# EAGLE library part ATECC608A-SSHDA-T_LCSC (library lcsc_parts)
Description: I2C SOIC-8 Specialized ICs RoHS Manufacturer: MICROCHIP MPN: ATECC608A-SSHDA-T LCSC Part: C616024 Category: Specialized ICs Datasheet: https://datasheet.lcsc.com/datasheet/pdf/b1cc3ea0f91aa4341c950e33791bdef3.pdf?productCode=C616024
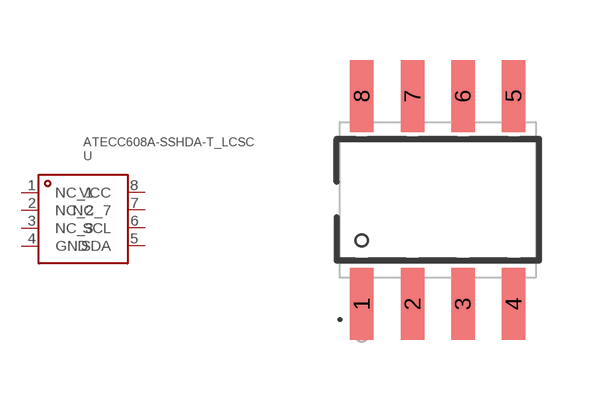
[diagram p13: symbol with the pads of SOIC-8_L4.9-W3.9-P1.27-LS6.0-BL; footprint SOIC-8_L4.9-W3.9-P1.27-LS6.0-BL]

Designator prefix U

## ATECC608A-SSHDA-T_LCSC (CATEGORY: Specialized ICs; DATASHEET: https://datasheet.lcsc.com/datasheet/pdf/b1cc3ea0f91aa4341c950e33791bdef3.pdf?productCode=C616024; DATA_RATE: 1Mbps; DESCRIPTION: I2C SOIC-8 Specialized ICs RoHS; FEATURES: Wake-up function;Non-volatile configuration storage; INTERFACE: I2C; LCSC_PART: C616024; LCSC_STOCK: 5011; MANUFACTURER: MICROCHIP; MPN: ATECC608A-SSHDA-T; OPERATING_TEMPERATURE: -40℃~+85℃; PARTNO: ATECC608A-SSHDA-T; PRICING_1000: $0.5946/unit @ 1000; PRICING_50: $0.8085/unit @ 50)  [SOIC-8_L4.9-W3.9-P1.27-LS6.0-BL]
1  NC_1
2  NC_2
3  NC_3
4  GND
5  SDA
6  SCL
7  NC_7
8  VCC

## Footprint SOIC-8_L4.9-W3.9-P1.27-LS6.0-BL (pad centres in mm)
smd 0.588 x 1.8: 1 -1.9,-2.6; 2 -0.63,-2.6; 3 0.63,-2.6; 4 1.9,-2.6; 5 1.9,2.6; 6 0.63,2.6; 7 -0.63,2.6; 8 -1.9,2.6